# Altium footprint library 29_to_100_Pin.PcbLib: 32 footprints (part 1 of 2)
Each footprint in its own frame and in the unit in brackets; x right, y up, seen from the top. Pads: shape width x height; smd on the part's side, far side on the other; paste and mask are expansions set on the pad; w line width, h text height; cw(c..) or ccw(c..) is an arc to the next point about the centre after c.
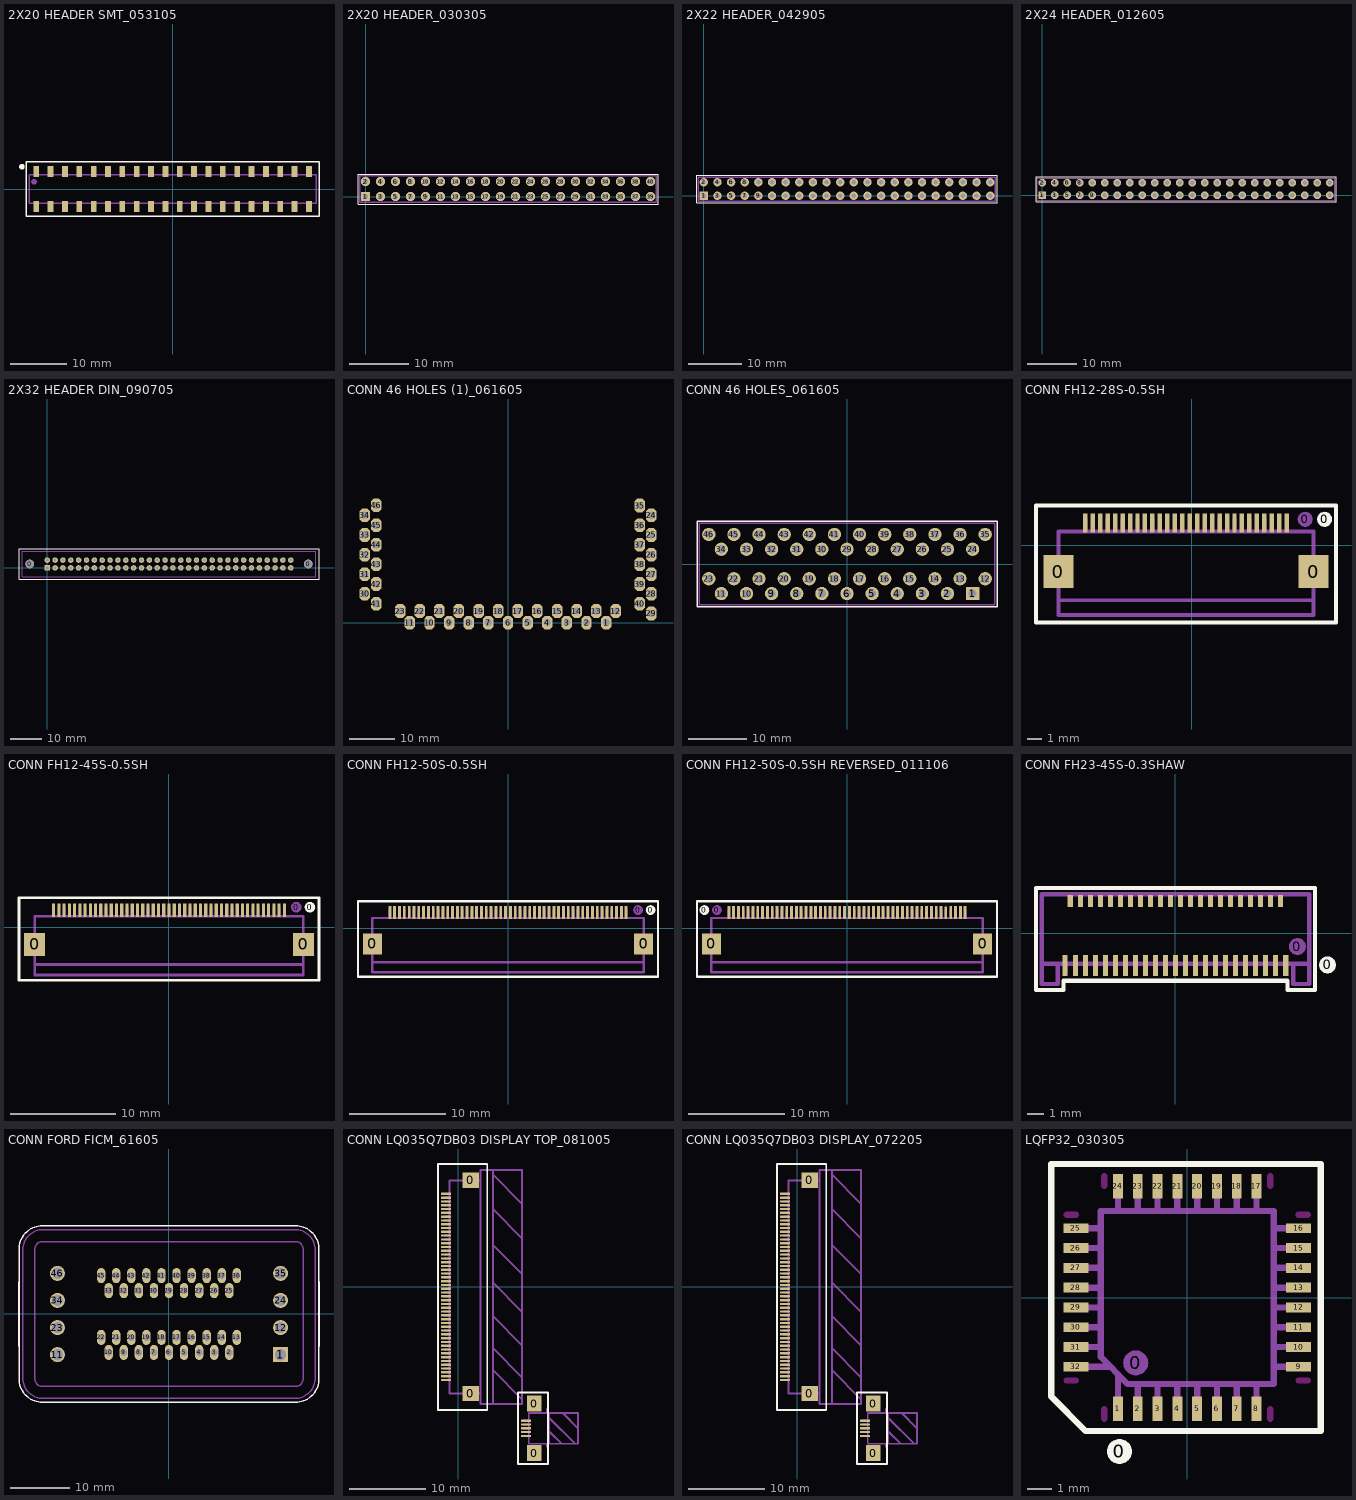
[diagram p0: the footprints below, top view; thin cyan lines are the x and y axes]

## 2X20 HEADER SMT_053105 [mil] "SMT"
height 350
pads (42):
  round 40 on Top Overlay: 0(-1050,155)
  round 40 on Mech1: 0(-965,50)
  rect 40x78 smd: 1(-950,-122.5) 2(-950,122.5) 3(-850,-122.5) 4(-850,122.5) 5(-750,-122.5) 6(-750,122.5) 7(-650,-122.5) 8(-650,122.5) 9(-550,-122.5) 10(-550,122.5) 11(-450,-122.5) 12(-450,122.5) 13(-350,-122.5) 14(-350,122.5) 15(-250,-122.5) 16(-250,122.5) 17(-150,-122.5) 18(-150,122.5) 19(-50,-122.5) 20(-50,122.5) 21(50,-122.5) 22(50,122.5) 23(150,-122.5) 24(150,122.5) 25(250,-122.5) 26(250,122.5) 27(350,-122.5) 28(350,122.5) 29(450,-122.5) 30(450,122.5) 31(550,-122.5) 32(550,122.5) 33(650,-122.5) 34(650,122.5) 35(750,-122.5) 36(750,122.5) 37(850,-122.5) 38(850,122.5) 39(950,-122.5) 40(950,122.5)
Top Overlay:
  lines w10: -1020,-190 -1020,0 -1020,190 0,190 1020,190 1020,0 1020,-190 0,-190 -1020,-190
Assembly:
  drawing of 205 lines, arcs and shapes, not listed
Assembly Designator:
  text ".Designator" at -45,20 h40
Assembly Comment:
  text ".Comment" at -175,-40 h40

## 2X20 HEADER_030305 [mil] "TH"
height 350
pads (40):
  rect 62x62 hole 35: 1(0,0)
  round 62 hole 35: 2(0,100) 3(100,0) 4(100,100) 5(200,0) 6(200,100) 7(300,0) 8(300,100) 9(400,0) 10(400,100) 11(500,0) 12(500,100) 13(600,0) 14(600,100) 15(700,0) 16(700,100) 17(800,0) 18(800,100) 19(900,0) 20(900,100) 21(1000,0) 22(1000,100) 23(1100,0) 24(1100,100) 25(1200,0) 26(1200,100) 27(1300,0) 28(1300,100) 29(1400,0) 30(1400,100) 31(1500,0) 32(1500,100) 33(1600,0) 34(1600,100) 35(1700,0) 36(1700,100) 37(1800,0) 38(1800,100) 39(1900,0) 40(1900,100)
Top Overlay:
  lines w8: -50,-50 1950,-50 1950,150 -50,150 -50,-50
Assembly:
  drawing of 164 lines, arcs and shapes, not listed
Assembly Designator:
  text ".Designator" at 15,39 h40
Assembly Comment:
  text ".Comment" at 1,-110 h40

## 2X22 HEADER_042905 [mil] "TH"
height 350
pads (44):
  rect 62x62 hole 35: 1(0,0)
  round 62 hole 35: 2(0,100) 3(100,0) 4(100,100) 5(200,0) 6(200,100) 7(300,0) 8(300,100) 9(400,0) 10(400,100) 11(500,0) 12(500,100) 13(600,0) 14(600,100) 15(700,0) 16(700,100) 17(800,0) 18(800,100) 19(900,0) 20(900,100) 21(1000,0) 22(1000,100) 23(1100,0) 24(1100,100) 25(1200,0) 26(1200,100) 27(1300,0) 28(1300,100) 29(1400,0) 30(1400,100) 31(1500,0) 32(1500,100) 33(1600,0) 34(1600,100) 35(1700,0) 36(1700,100) 37(1800,0) 38(1800,100) 39(1900,0) 40(1900,100) 41(2000,0) 42(2000,100) 43(2100,0) 44(2100,100)
Top Overlay:
  lines w8: -50,-50 2150,-50 2150,150 -50,150 -50,-50
Assembly:
  drawing of 180 lines, arcs and shapes, not listed
Assembly Designator:
  text ".Designator" at 909,35 h40
Assembly Comment:
  text ".Comment" at 779,-107 h40

## 2X24 HEADER_012605 [mil] "TH"
height 350
pads (48):
  rect 62x62 hole 35: 1(0,0)
  round 62 hole 35: 2(0,100) 3(100,0) 4(100,100) 5(200,0) 6(200,100) 7(300,0) 8(300,100) 9(400,0) 10(400,100) 11(500,0) 12(500,100) 13(600,0) 14(600,100) 15(700,0) 16(700,100) 17(800,0) 18(800,100) 19(900,0) 20(900,100) 21(1000,0) 22(1000,100) 23(1100,0) 24(1100,100) 25(1200,0) 26(1200,100) 27(1300,0) 28(1300,100) 29(1400,0) 30(1400,100) 31(1500,0) 32(1500,100) 33(1600,0) 34(1600,100) 35(1700,0) 36(1700,100) 37(1800,0) 38(1800,100) 39(1900,0) 40(1900,100) 41(2000,0) 42(2000,100) 43(2100,0) 44(2100,100) 45(2200,0) 46(2200,100) 47(2300,0) 48(2300,100)
Top Overlay:
  lines w10: -50,-50 2350,-50 2350,150 -50,150 -50,-50
Assembly:
  drawing of 220 lines, arcs and shapes, not listed
Assembly Designator:
  text ".Designator" at -20,-105 h40
Assembly Comment:
  text ".Comment" at -15,165 h40

## 2X32 HEADER DIN_090705 [mil] "TH"
height 350
pads (66):
  round 110.24 hole 110.24 unplated: 0(-221.65,50) 0(3321.65,50)
  rect 70x70 hole 40: 1(0,0)
  round 70 hole 40: 2(100,0) 3(200,0) 4(300,0) 5(400,0) 6(500,0) 7(600,0) 8(700,0) 9(800,0) 10(900,0) 11(1000,0) 12(1100,0) 13(1200,0) 14(1300,0) 15(1400,0) 16(1500,0) 17(1600,0) 18(1700,0) 19(1800,0) 20(1900,0) 21(2000,0) 22(2100,0) 23(2200,0) 24(2300,0) 25(2400,0) 26(2500,0) 27(2600,0) 28(2700,0) 29(2800,0) 30(2900,0) 31(3000,0) 32(3100,0) 33(0,100) 34(100,100) 35(200,100) 36(300,100) 37(400,100) 38(500,100) 39(600,100) 40(700,100) 41(800,100) 42(900,100) 43(1000,100) 44(1100,100) 45(1200,100) 46(1300,100) 47(1400,100) 48(1500,100) 49(1600,100) 50(1700,100) 51(1800,100) 52(1900,100) 53(2000,100) 54(2100,100) 55(2200,100) 56(2300,100) 57(2400,100) 58(2500,100) 59(2600,100) 60(2700,100) 61(2800,100) 62(2900,100) 63(3000,100) 64(3100,100)
Top Overlay:
  lines w10: -359.45,-146.85 3459.45,-146.85 3459.45,246.85 1550,246.85 -359.45,246.85 -359.45,-146.85
Assembly:
  lines w10: -320.08,-109.45 -237.4,-109.45 1550,-109.45 3337.4,-109.45 3420.08,-109.45 3420.08,50 3420.08,209.45 3337.4,209.45 1550,209.45 -237.4,209.45 -320.08,209.45 -320.08,50 -320.08,-109.45
Assembly Designator:
  text ".Designator" at 1355,-200 h40
Assembly Comment:
  text ".Comment" at 1455,45 h40

## CONN 46 HOLES (1)_061605 [mm] "TH"
pads (46):
  oct 2.3x3 hole 1.6: 1(21.59,0) 2(17.272,0) 3(12.954,0) 4(8.636,0) 5(4.318,0) 6(0,0) 7(-4.318,0) 8(-8.636,0) 9(-12.954,0) 10(-17.272,0) 11(-21.59,0) 12(23.749,2.54) 13(19.431,2.54) 14(15.113,2.54) 15(10.795,2.54) 16(6.477,2.54) 17(2.159,2.54) 18(-2.159,2.54) 19(-6.477,2.54) 20(-10.795,2.54) 21(-15.113,2.54) 22(-19.431,2.54) 23(-23.749,2.54) 24(31.496,23.597) 25(31.496,19.279) 26(31.496,14.961) 27(31.496,10.643) 28(31.496,6.325) 29(31.496,2.007) 30(-31.496,6.325) 31(-31.496,10.643) 32(-31.496,14.961) 33(-31.496,19.279) 34(-31.496,23.597) 35(28.956,25.756) 36(28.956,21.438) 37(28.956,17.12) 38(28.956,12.802) 39(28.956,8.484) 40(28.956,4.166) 41(-28.956,4.166) 42(-28.956,8.484) 43(-28.956,12.802) 44(-28.956,17.12) 45(-28.956,21.438) 46(-28.956,25.781)
Assembly Designator:
  text ".Designator" at -1.27,4.318 h1.02
Assembly Comment:
  text ".Comment" at -3.429,5.842 h1.02

## CONN 46 HOLES_061605 [mil] "TH"
pads (46):
  rect 90x90 hole 55: 1(850,-200)
  round 90 hole 55: 2(680,-200) 3(510,-200) 4(340,-200) 5(170,-200) 6(0,-200) 7(-170,-200) 8(-340,-200) 9(-510,-200) 10(-680,-200) 11(-850,-200) 12(935,-100) 13(765,-100) 14(595,-100) 15(425,-100) 16(255,-100) 17(85,-100) 18(-85,-100) 19(-255,-100) 20(-425,-100) 21(-595,-100) 22(-765,-100) 23(-935,-100) 24(850,100) 25(680,100) 26(510,100) 27(340,100) 28(170,100) 29(0,100) 30(-170,100) 31(-340,100) 32(-510,100) 33(-680,100) 34(-850,100) 35(935,200) 36(765,200) 37(595,200) 38(425,200) 39(255,200) 40(85,200) 41(-85,200) 42(-255,200) 43(-425,200) 44(-595,200) 45(-765,200) 46(-935,200)
Top Overlay:
  lines w10: -1015,-290 1015,-290 1015,170 1015,290 -1015,290 -1015,170 -1015,-290
Assembly:
  lines w10: -1000,-275 1000,-275 1000,200 1000,275 -1000,275 -1000,200 -1000,-275
Assembly Designator:
  text ".Designator" at -50,-25 h40
Assembly Comment:
  text ".Comment" at -190,-365 h40

## CONN FH12-28S-0.5SH [mm] "SM FP"
height 2
pads (32):
  rect 2x2.2 smd mask+0.025: 0(-8.919,-1.75) 0(8.181,-1.75)
  round 1.016 on Mech1 mask+0.025: 0(7.619,1.75)
  round 1.016 on Top Overlay mask+0.025: 0(8.919,1.75)
  rect 0.3x1.3 smd mask+0.025: 1(6.381,1.5) 2(5.881,1.5) 3(5.381,1.5) 4(4.881,1.5) 5(4.381,1.5) 6(3.881,1.5) 7(3.381,1.5) 8(2.881,1.5) 9(2.381,1.5) 10(1.881,1.5) 11(1.381,1.5) 12(0.881,1.5) 13(0.381,1.5) 14(-0.119,1.5) 15(-0.619,1.5) 16(-1.119,1.5) 17(-1.619,1.5) 18(-2.119,1.5) 19(-2.619,1.5) 20(-3.119,1.5) 21(-3.619,1.5) 22(-4.119,1.5) 23(-4.619,1.5) 24(-5.119,1.5) 25(-5.619,1.5) 26(-6.119,1.5) 27(-6.619,1.5) 28(-7.119,1.5)
Top Overlay:
  lines w0.254: -10.419,-5.17 -10.319,-5.17 -5.869,-5.17 9.581,-5.17 9.681,-5.17 9.681,2.68 9.581,2.68 -5.869,2.68 -10.319,2.68 -10.419,2.68 -10.419,-5.17
Assembly:
  lines w0.254: -8.919,-2.27 -9.419,-2.27 -9.419,-1.07 -8.919,-1.07 -8.919,0.93 ; -7.107,0.94 -7.107,1.74 ; -6.619,0.93 -6.619,1.73 ; -6.119,0.93 -6.119,1.73 ; -5.619,0.93 -5.619,1.73 ; -5.119,0.93 -5.119,1.73 ; -4.619,0.93 -4.619,1.73 ; -4.119,0.93 -4.119,1.73 ; -3.619,0.93 -3.619,1.73 ; -3.119,0.93 -3.119,1.73 ; -2.619,0.93 -2.619,1.73 ; -2.119,0.93 -2.119,1.73 ; -1.619,0.93 -1.619,1.73 ; -1.119,0.93 -1.119,1.73 ; -0.619,0.93 -0.619,1.73 ; -0.119,0.93 -0.119,1.73 ; 0.381,0.93 0.381,1.73 ; 0.881,0.93 0.881,1.73 ; 1.381,0.93 1.381,1.73 ; 1.881,0.93 1.881,1.73 ; 2.381,0.93 2.381,1.73 ; 2.881,0.93 2.881,1.73 ; 3.381,0.93 3.381,1.73 ; 3.881,0.93 3.881,1.73 ; 4.381,0.93 4.381,1.73 ; 4.881,0.93 4.881,1.73 ; 5.381,0.93 5.381,1.73 ; 5.881,0.93 5.881,1.73 ; 6.381,0.93 6.381,1.73 ; 8.181,-2.27 8.681,-2.27 8.681,-1.07 8.181,-1.07 ; -8.919,0.93 8.181,0.93 8.181,-3.67 ; -8.919,0.93 -8.919,-3.67 8.181,-3.67 ; -8.919,0.93 -8.919,-4.67 8.181,-4.67 8.181,-3.67
Assembly Designator:
  text ".Designator" at -2.369,-1.67 h1.02
Assembly Comment:
  text ".Comment" at -7.019,-3.27 h1.02

## CONN FH12-45S-0.5SH [mm] "SM FP"
height 2
pads (49):
  rect 2x2.2 smd mask+0.038: 0(-12.8,-1.625) 0(12.8,-1.625)
  round 1.016 on Mech1 mask+0.038: 0(12.138,1.92)
  round 1.016 on Top Overlay mask+0.038: 0(13.438,1.92)
  rect 0.3x1.3 smd mask+0.038: 1(11,1.625) 2(10.5,1.625) 3(10,1.625) 4(9.5,1.625) 5(9,1.625) 6(8.5,1.625) 7(8,1.625) 8(7.5,1.625) 9(7,1.625) 10(6.5,1.625) 11(6,1.625) 12(5.5,1.625) 13(5,1.625) 14(4.5,1.625) 15(4,1.625) 16(3.5,1.625) 17(3,1.625) 18(2.5,1.625) 19(2,1.625) 20(1.5,1.625) 21(1,1.625) 22(0.5,1.625) 23(0,1.625) 24(-0.5,1.625) 25(-1,1.625) 26(-1.5,1.625) 27(-2,1.625) 28(-2.5,1.625) 29(-3,1.625) 30(-3.5,1.625) 31(-4,1.625) 32(-4.5,1.625) 33(-5,1.625) 34(-5.5,1.625) 35(-6,1.625) 36(-6.5,1.625) 37(-7,1.625) 38(-7.5,1.625) 39(-8,1.625) 40(-8.5,1.625) 41(-9,1.625) 42(-9.5,1.625) 43(-10,1.625) 44(-10.5,1.625) 45(-11,1.625)
Top Overlay:
  lines w0.254: -14.3,-5.045 -14.3,2.805 -14.2,2.805 1.25,2.805 14.2,2.805 14.3,2.805 14.3,-5.045 14.2,-5.045 1.25,-5.045 -14.2,-5.045 -14.3,-5.045
Assembly:
  lines w0.254: -12.8,-2.145 -13.3,-2.145 -13.3,-0.945 -12.8,-0.945 -12.8,1.055 ; -11,1.055 -11,1.855 ; -10.5,1.055 -10.5,1.855 ; -10,1.055 -10,1.855 ; -9.5,1.055 -9.5,1.855 ; -9,1.055 -9,1.855 ; -8.5,1.055 -8.5,1.855 ; -8,1.055 -8,1.855 ; -7.5,1.055 -7.5,1.855 ; -7,1.055 -7,1.855 ; -6.5,1.055 -6.5,1.855 ; -6,1.055 -6,1.855 ; -5.5,1.055 -5.5,1.855 ; -5,1.055 -5,1.855 ; -4.5,1.055 -4.5,1.855 ; -4,1.055 -4,1.855 ; -3.5,1.055 -3.5,1.855 ; -3,1.055 -3,1.855 ; -2.5,1.055 -2.5,1.855 ; -2,1.055 -2,1.855 ; -1.5,1.055 -1.5,1.855 ; -1,1.055 -1,1.855 ; -0.5,1.055 -0.5,1.855 ; 0,1.055 0,1.855 ; 0.5,1.055 0.5,1.855 ; 1,1.055 1,1.855 ; 1.25,1.055 -12.8,1.055 ; 1.5,1.055 1.5,1.855 ; 2,1.055 2,1.855 ; 2.5,1.055 2.5,1.855 ; 3,1.055 3,1.855 ; 3.5,1.055 3.5,1.855 ; 4,1.055 4,1.855 ; 4.5,1.055 4.5,1.855 ; 5,1.055 5,1.855 ; 5.5,1.055 5.5,1.855 ; 6,1.055 6,1.855 ; 6.5,1.055 6.5,1.855 ; 7,1.055 7,1.855 ; 7.5,1.055 7.5,1.855 ; 8,1.055 8,1.855 ; 8.5,1.055 8.5,1.855 ; 9,1.055 9,1.855 ; 9.5,1.055 9.5,1.855 ; 10,1.055 10,1.855 ; 10.5,1.055 10.5,1.855 ; 11,1.055 11,1.855 ; 12.8,-3.945 12.8,-3.545 ; 12.8,-2.145 13.3,-2.145 13.3,-0.945 12.8,-0.945 ; -12.8,1.055 -12.8,-4.545 12.8,-4.545 12.8,-3.545 ; -12.8,1.055 -12.8,-3.545 12.1,-3.545 12.8,-3.545 ; -12.8,1.055 12.8,1.055 12.8,-3.545
Assembly Designator:
  text ".Designator" at -0.1,-0.545 h1.02
Assembly Comment:
  text ".Comment" at -3.05,-2.395 h1.02

## CONN FH12-50S-0.5SH [mm] "SM FP"
height 2
pads (54):
  rect 2x2.2 smd mask+0.025: 0(-14.05,-1.63) 0(14.05,-1.63)
  round 1.016 on Mech1 mask+0.025: 0(13.488,1.87)
  round 1.016 on Top Overlay mask+0.025: 0(14.788,1.87)
  rect 0.3x1.3 smd mask+0.025: 1(12.25,1.62) 2(11.75,1.62) 3(11.25,1.62) 4(10.75,1.62) 5(10.25,1.62) 6(9.75,1.62) 7(9.25,1.62) 8(8.75,1.62) 9(8.25,1.62) 10(7.75,1.62) 11(7.25,1.62) 12(6.75,1.62) 13(6.25,1.62) 14(5.75,1.62) 15(5.25,1.62) 16(4.75,1.62) 17(4.25,1.62) 18(3.75,1.62) 19(3.25,1.62) 20(2.75,1.62) 21(2.25,1.62) 22(1.75,1.62) 23(1.25,1.62) 24(0.75,1.62) 25(0.25,1.62) 26(-0.25,1.62) 27(-0.75,1.62) 28(-1.25,1.62) 29(-1.75,1.62) 30(-2.25,1.62) 31(-2.75,1.62) 32(-3.25,1.62) 33(-3.75,1.62) 34(-4.25,1.62) 35(-4.75,1.62) 36(-5.25,1.62) 37(-5.75,1.62) 38(-6.25,1.62) 39(-6.75,1.62) 40(-7.25,1.62) 41(-7.75,1.62) 42(-8.25,1.62) 43(-8.75,1.62) 44(-9.25,1.62) 45(-9.75,1.62) 46(-10.238,1.63) 47(-10.75,1.62) 48(-11.25,1.62) 49(-11.75,1.62) 50(-12.25,1.62)
Top Overlay:
  lines w0.254: -15.55,-5.05 -15.45,-5.05 0,-5.05 15.45,-5.05 15.55,-5.05 15.55,2.8 15.45,2.8 0,2.8 -15.45,2.8 -15.55,2.8 -15.55,-5.05
Assembly:
  lines w0.254: -14.05,-2.15 -14.55,-2.15 -14.55,-0.95 -14.05,-0.95 -14.05,1.05 ; -12.238,1.06 -12.238,1.86 ; -11.738,1.06 -11.738,1.86 ; -11.238,1.06 -11.238,1.86 ; -10.738,1.06 -10.738,1.86 ; -10.238,1.06 -10.238,1.86 ; -9.75,1.05 -9.75,1.85 ; -9.25,1.05 -9.25,1.85 ; -8.75,1.05 -8.75,1.85 ; -8.25,1.05 -8.25,1.85 ; -7.75,1.05 -7.75,1.85 ; -7.25,1.05 -7.25,1.85 ; -6.75,1.05 -6.75,1.85 ; -6.25,1.05 -6.25,1.85 ; -5.75,1.05 -5.75,1.85 ; -5.25,1.05 -5.25,1.85 ; -4.75,1.05 -4.75,1.85 ; -4.25,1.05 -4.25,1.85 ; -3.75,1.05 -3.75,1.85 ; -3.25,1.05 -3.25,1.85 ; -2.75,1.05 -2.75,1.85 ; -2.25,1.05 -2.25,1.85 ; -1.75,1.05 -1.75,1.85 ; -1.25,1.05 -1.25,1.85 ; -0.75,1.05 -0.75,1.85 ; -0.25,1.05 -0.25,1.85 ; 0,1.05 -14.05,1.05 ; 0.25,1.05 0.25,1.85 ; 0.75,1.05 0.75,1.85 ; 1.25,1.05 1.25,1.85 ; 1.75,1.05 1.75,1.85 ; 2.25,1.05 2.25,1.85 ; 2.75,1.05 2.75,1.85 ; 3.25,1.05 3.25,1.85 ; 3.75,1.05 3.75,1.85 ; 4.25,1.05 4.25,1.85 ; 4.75,1.05 4.75,1.85 ; 5.25,1.05 5.25,1.85 ; 5.75,1.05 5.75,1.85 ; 6.25,1.05 6.25,1.85 ; 6.75,1.05 6.75,1.85 ; 7.25,1.05 7.25,1.85 ; 7.75,1.05 7.75,1.85 ; 8.25,1.05 8.25,1.85 ; 8.75,1.05 8.75,1.85 ; 9.25,1.05 9.25,1.85 ; 9.75,1.05 9.75,1.85 ; 10.25,1.05 10.25,1.85 ; 10.75,1.05 10.75,1.85 ; 11.25,1.05 11.25,1.85 ; 11.75,1.05 11.75,1.85 ; 12.25,1.05 12.25,1.85 ; 14.05,-2.15 14.55,-2.15 14.55,-0.95 14.05,-0.95 ; -14.05,1.05 14.05,1.05 14.05,-3.55 ; -14.05,1.05 -14.05,-3.55 14.05,-3.55 ; -14.05,1.05 -14.05,-4.55 14.05,-4.55 14.05,-3.55
Assembly Designator:
  text ".Designator" at -1.35,-0.55 h1.02
Assembly Comment:
  text ".Comment" at -4.3,-2.4 h1.02

## CONN FH12-50S-0.5SH REVERSED_011106 [mm] "SM FP"
height 2
pads (54):
  round 1.016 on Top Overlay mask+0.025: 0(-14.788,1.87)
  rect 2x2.2 smd mask+0.025: 0(-14.05,-1.63) 0(14.05,-1.63)
  round 1.016 on Mech1 mask+0.025: 0(-13.488,1.87)
  rect 0.3x1.3 smd mask+0.025: 1(-12.25,1.62) 2(-11.75,1.62) 3(-11.25,1.62) 4(-10.75,1.62) 5(-10.25,1.62) 6(-9.75,1.62) 7(-9.25,1.62) 8(-8.75,1.62) 9(-8.25,1.62) 10(-7.75,1.62) 11(-7.25,1.62) 12(-6.75,1.62) 13(-6.25,1.62) 14(-5.75,1.62) 15(-5.25,1.62) 16(-4.75,1.62) 17(-4.25,1.62) 18(-3.75,1.62) 19(-3.25,1.62) 20(-2.75,1.62) 21(-2.25,1.62) 22(-1.75,1.62) 23(-1.25,1.62) 24(-0.75,1.62) 25(-0.25,1.62) 26(0.25,1.62) 27(0.75,1.62) 28(1.25,1.62) 29(1.75,1.62) 30(2.25,1.62) 31(2.75,1.62) 32(3.25,1.62) 33(3.75,1.62) 34(4.25,1.62) 35(4.75,1.62) 36(5.25,1.62) 37(5.75,1.62) 38(6.25,1.62) 39(6.75,1.62) 40(7.25,1.62) 41(7.75,1.62) 42(8.25,1.62) 43(8.75,1.62) 44(9.25,1.62) 45(9.75,1.62) 46(10.238,1.61) 47(10.75,1.62) 48(11.25,1.62) 49(11.75,1.62) 50(12.25,1.62)
Top Overlay:
  lines w0.254: -15.55,-5.05 -15.55,2.8 -15.45,2.8 0,2.8 15.45,2.8 15.55,2.8 15.55,-5.05 15.45,-5.05 0,-5.05 -15.45,-5.05 -15.55,-5.05
Assembly:
  lines w0.254: -14.05,-2.15 -14.55,-2.15 -14.55,-0.95 -14.05,-0.95 -14.05,1.05 ; -12.238,1.06 -12.238,1.86 ; -11.738,1.06 -11.738,1.86 ; -11.238,1.06 -11.238,1.86 ; -10.738,1.06 -10.738,1.86 ; -10.238,1.06 -10.238,1.86 ; -9.75,1.05 -9.75,1.85 ; -9.25,1.05 -9.25,1.85 ; -8.75,1.05 -8.75,1.85 ; -8.25,1.05 -8.25,1.85 ; -7.75,1.05 -7.75,1.85 ; -7.25,1.05 -7.25,1.85 ; -6.75,1.05 -6.75,1.85 ; -6.25,1.05 -6.25,1.85 ; -5.75,1.05 -5.75,1.85 ; -5.25,1.05 -5.25,1.85 ; -4.75,1.05 -4.75,1.85 ; -4.25,1.05 -4.25,1.85 ; -3.75,1.05 -3.75,1.85 ; -3.25,1.05 -3.25,1.85 ; -2.75,1.05 -2.75,1.85 ; -2.25,1.05 -2.25,1.85 ; -1.75,1.05 -1.75,1.85 ; -1.25,1.05 -1.25,1.85 ; -0.75,1.05 -0.75,1.85 ; -0.25,1.05 -0.25,1.85 ; 0,1.05 -14.05,1.05 ; 0.25,1.05 0.25,1.85 ; 0.75,1.05 0.75,1.85 ; 1.25,1.05 1.25,1.85 ; 1.75,1.05 1.75,1.85 ; 2.25,1.05 2.25,1.85 ; 2.75,1.05 2.75,1.85 ; 3.25,1.05 3.25,1.85 ; 3.75,1.05 3.75,1.85 ; 4.25,1.05 4.25,1.85 ; 4.75,1.05 4.75,1.85 ; 5.25,1.05 5.25,1.85 ; 5.75,1.05 5.75,1.85 ; 6.25,1.05 6.25,1.85 ; 6.75,1.05 6.75,1.85 ; 7.25,1.05 7.25,1.85 ; 7.75,1.05 7.75,1.85 ; 8.25,1.05 8.25,1.85 ; 8.75,1.05 8.75,1.85 ; 9.25,1.05 9.25,1.85 ; 9.75,1.05 9.75,1.85 ; 10.25,1.05 10.25,1.85 ; 10.75,1.05 10.75,1.85 ; 11.25,1.05 11.25,1.85 ; 11.75,1.05 11.75,1.85 ; 12.25,1.05 12.25,1.85 ; 14.05,-2.15 14.55,-2.15 14.55,-0.95 14.05,-0.95 ; -14.05,1.05 -14.05,-4.55 14.05,-4.55 14.05,-3.55 ; -14.05,1.05 -14.05,-3.55 14.05,-3.55 ; -14.05,1.05 14.05,1.05 14.05,-3.55
Assembly Designator:
  text ".Designator" at -1.35,-0.55 h1.02
Assembly Comment:
  text ".Comment" at -4.3,-2.4 h1.02

## CONN FH23-45S-0.3SHAW [mm] "SM FP"
height 1.25
pads (47):
  round 1.016 on Mech1 mask+0.038: 0(7.3,-0.8)
  round 1.016 on Top Overlay mask+0.038: 0(9.1,-1.9)
  rect 0.3x1.25 smd mask+0.038: 1(6.6,-1.925) 3(6,-1.925) 5(5.4,-1.925) 7(4.8,-1.925) 9(4.2,-1.925) 11(3.6,-1.925) 13(3,-1.925) 15(2.4,-1.925) 17(1.8,-1.925) 19(1.2,-1.925) 21(0.6,-1.925) 23(0,-1.925) 25(-0.6,-1.925) 27(-1.2,-1.925) 29(-1.8,-1.925) 31(-2.4,-1.925) 33(-3,-1.925) 35(-3.6,-1.925) 37(-4.2,-1.925) 39(-4.8,-1.925) 41(-5.4,-1.925) 43(-6,-1.925) 45(-6.6,-1.925)
  rect 0.3x0.7 smd mask+0.038: 2(6.3,1.925) 4(5.7,1.925) 6(5.1,1.925) 8(4.5,1.925) 10(3.9,1.925) 12(3.3,1.925) 14(2.7,1.925) 16(2.1,1.925) 18(1.5,1.925) 20(0.9,1.925) 22(0.3,1.925) 24(-0.3,1.925) 26(-0.9,1.925) 28(-1.5,1.925) 30(-2.1,1.925) 32(-2.7,1.925) 34(-3.3,1.925) 36(-3.9,1.925) 38(-4.5,1.925) 40(-5.1,1.925) 42(-5.7,1.925) 44(-6.3,1.925)
Top Overlay:
  lines w0.254: -8.35,-3.4 -8.35,2.7 0,2.7 8.35,2.7 8.35,-3.4 6.7,-3.4 6.7,-2.85 0,-2.85 -6.7,-2.85 -6.7,-3.4 -8.35,-3.4
Assembly:
  lines w0.254: -7.05,-1.825 -7.05,-3.05 -8,-3.05 -8,2.325 ; -6.6,-2.375 -6.6,-1.825 ; -6,-2.375 -6,-1.825 ; -5.4,-2.375 -5.4,-1.825 ; -4.8,-2.375 -4.8,-1.825 ; -4.2,-2.375 -4.2,-1.825 ; -3.6,-2.375 -3.6,-1.825 ; -3,-2.375 -3,-1.825 ; -2.4,-2.375 -2.4,-1.825 ; -1.8,-2.375 -1.8,-1.825 ; -1.2,-2.375 -1.2,-1.825 ; -0.6,-2.375 -0.6,-1.825 ; 0,-2.375 0,-1.825 ; 0,2.325 -8,2.325 ; 0.6,-2.375 0.6,-1.825 ; 1.2,-2.375 1.2,-1.825 ; 1.8,-2.375 1.8,-1.825 ; 2.4,-2.375 2.4,-1.825 ; 3,-2.375 3,-1.825 ; 3.6,-2.375 3.6,-1.825 ; 4.2,-2.375 4.2,-1.825 ; 4.8,-2.375 4.8,-1.825 ; 5.4,-2.375 5.4,-1.825 ; 6,-2.375 6,-1.825 ; 6.6,-2.375 6.6,-1.825 ; 7.05,-1.825 7.05,-3.05 8,-3.05 8,-1.825 ; -8,2.325 8,2.325 8,-1.825 ; -8,2.325 -8,-1.825 8,-1.825
Assembly Designator:
  text ".Designator" at -1.65,-0.4 h1.02
Assembly Comment:
  text ".Comment" at -4.65,-4.1 h1.02

## CONN FORD FICM_61605 [mil] "TH"
height 1.23
pads (46):
  rect 100x100 hole 75: 1(740,-270)
  oval 55x100 hole 45: 2(400,-255) 3(300,-255) 4(200,-255) 5(100,-255) 6(0,-255) 7(-100,-255) 8(-200,-255) 9(-300,-255) 10(-400,-255) 13(450,-155) 14(350,-155) 15(250,-155) 16(150,-155) 17(50,-155) 18(-50,-155) 19(-150,-155) 20(-250,-155) 21(-350,-155) 22(-450,-155) 25(400,155) 26(300,155) 27(200,155) 28(100,155) 29(0,155) 30(-100,155) 31(-200,155) 32(-300,155) 33(-400,155) 36(450,255) 37(350,255) 38(250,255) 39(150,255) 40(50,255) 41(-50,255) 42(-150,255) 43(-250,255) 44(-350,255) 45(-450,255)
  round 100 hole 75: 11(-740,-270) 12(740,-90) 23(-740,-90) 24(740,90) 34(-740,90) 35(740,270) 46(-740,270)
Top Overlay:
  lines w10: 990,0 995,0 ; 995,0 994.93,-430.07 cw(c840,-430.07) 840,-585 0,-585 -840,-585 cw(c-840,-430.07) -994.93,-430.07 -995,0 -994.93,430.07 cw(c-840,430.07) -840,585 0,585 840,585 cw(c840,430.07) 994.93,430.07 995,0
Assembly:
  lines w10: -970,-425 ccw(c-835,-425) -835,-560 835,-560 ccw(c835,-425) 970,-425 970,425 ccw(c835,425) 835,560 -835,560 ccw(c-835,425) -970,425 -970,-425 ; -890,-430 ccw(c-840,-430) -840,-480 840,-480 ccw(c840,-430) 890,-430 890,430 ccw(c840,430) 840,480 -840,480 ccw(c-840,430) -890,430 -890,-430
Assembly Designator:
  text ".Designator" at -89.96,-25.75 h40
Assembly Comment:
  text ".Comment" at -215,-385 h40

## CONN LQ035Q7DB03 DISPLAY TOP_081005 [mm] "SM"
height 2.032
pads (59):
  rect 2.2x2 smd mask+0.038: 0(1.625,-14.05) 0(1.625,14.05)
  rect 1.9x2.1 smd mask+0.038: 0(9.967,-21.871) 0(9.967,-15.369)
  rect 1.3x0.3 smd mask+0.038: 1(-1.625,-12.25) 2(-1.625,-11.75) 3(-1.625,-11.25) 4(-1.625,-10.75) 5(-1.625,-10.25) 6(-1.625,-9.75) 7(-1.625,-9.25) 8(-1.625,-8.75) 9(-1.625,-8.25) 10(-1.625,-7.75) 11(-1.625,-7.25) 12(-1.625,-6.75) 13(-1.625,-6.25) 14(-1.625,-5.75) 15(-1.625,-5.25) 16(-1.625,-4.75) 17(-1.625,-4.25) 18(-1.625,-3.75) 19(-1.625,-3.25) 20(-1.625,-2.75) 21(-1.625,-2.25) 22(-1.625,-1.75) 23(-1.625,-1.25) 24(-1.625,-0.75) 25(-1.625,-0.25) 26(-1.625,0.25) 27(-1.625,0.75) 28(-1.625,1.25) 29(-1.625,1.75) 30(-1.625,2.25) 31(-1.625,2.75) 32(-1.625,3.25) 33(-1.625,3.75) 34(-1.625,4.25) 35(-1.625,4.75) 36(-1.625,5.25) 37(-1.625,5.75) 38(-1.625,6.25) 39(-1.625,6.75) 40(-1.625,7.25) 41(-1.625,7.75) 42(-1.625,8.25) 43(-1.625,8.75) 44(-1.625,9.25) 45(-1.625,9.75) 46(-1.625,10.25) 47(-1.625,10.75) 48(-1.625,11.25) 49(-1.625,11.75) 50(-1.625,12.25) A1(8.875,-19.62) A2(8.875,-19.12) A3(8.875,-18.62) A4(8.875,-18.12) A5(8.875,-17.62)
Top Overlay:
  lines w0.254: -2.682,-16.207 3.795,-16.207 3.795,16.178 -2.682,16.178 -2.682,-16.207 ; 7.859,-23.319 11.796,-23.319 11.796,-13.921 7.859,-13.921 7.859,-23.319
Assembly:
  region: -1.158,-6.37 -1.158,-6.12 -1.875,-6.12 -1.875,-6.37
  region: -1.158,-5.87 -1.158,-5.62 -1.875,-5.62 -1.875,-5.87
  region: -1.158,-5.37 -1.158,-5.12 -1.875,-5.12 -1.875,-5.37
  region: -1.158,-4.87 -1.158,-4.62 -1.875,-4.62 -1.875,-4.87
  region: -1.158,-4.37 -1.158,-4.12 -1.875,-4.12 -1.875,-4.37
  region: -1.158,-3.87 -1.158,-3.62 -1.875,-3.62 -1.875,-3.87
  region: -1.158,-3.37 -1.158,-3.12 -1.875,-3.12 -1.875,-3.37
  region: -1.158,-2.87 -1.158,-2.62 -1.875,-2.62 -1.875,-2.87
  region: -1.158,-2.37 -1.158,-2.12 -1.875,-2.12 -1.875,-2.37
  region: -1.158,-1.87 -1.158,-1.62 -1.875,-1.62 -1.875,-1.87
  region: -1.158,-1.37 -1.158,-1.12 -1.875,-1.12 -1.875,-1.37
  region: -1.158,-0.87 -1.158,-0.62 -1.875,-0.62 -1.875,-0.87
  region: -1.158,-0.37 -1.158,-0.12 -1.875,-0.12 -1.875,-0.37
  region: -1.158,0.13 -1.158,0.38 -1.875,0.38 -1.875,0.13
  region: -1.158,0.63 -1.158,0.88 -1.875,0.88 -1.875,0.63
  region: -1.158,1.13 -1.158,1.38 -1.875,1.38 -1.875,1.13
  region: -1.158,1.63 -1.158,1.88 -1.875,1.88 -1.875,1.63
  region: -1.158,2.13 -1.158,2.38 -1.875,2.38 -1.875,2.13
  region: -1.158,2.63 -1.158,2.88 -1.875,2.88 -1.875,2.63
  region: -1.158,3.13 -1.158,3.38 -1.875,3.38 -1.875,3.13
  region: -1.158,3.63 -1.158,3.88 -1.875,3.88 -1.875,3.63
  region: -1.158,4.13 -1.158,4.38 -1.875,4.38 -1.875,4.13
  region: -1.158,4.63 -1.158,4.88 -1.875,4.88 -1.875,4.63
  region: -1.158,5.13 -1.158,5.38 -1.875,5.38 -1.875,5.13
  region: -1.158,5.63 -1.158,5.88 -1.875,5.88 -1.875,5.63
  region: -1.158,6.13 -1.158,6.38 -1.875,6.38 -1.875,6.13
  region: -1.158,6.63 -1.158,6.88 -1.875,6.88 -1.875,6.63
  region: -1.158,7.13 -1.158,7.38 -1.875,7.38 -1.875,7.13
  region: -1.158,7.63 -1.158,7.88 -1.875,7.88 -1.875,7.63
  region: -1.158,8.13 -1.158,8.38 -1.875,8.38 -1.875,8.13
  region: -1.158,8.63 -1.158,8.88 -1.875,8.88 -1.875,8.63
  region: -1.158,9.13 -1.158,9.38 -1.875,9.38 -1.875,9.13
  region: -1.158,9.63 -1.158,9.88 -1.875,9.88 -1.875,9.63
  region: -1.158,10.13 -1.158,10.38 -1.875,10.38 -1.875,10.13
  region: -1.158,10.63 -1.158,10.88 -1.875,10.88 -1.875,10.63
  region: -1.158,11.13 -1.158,11.38 -1.875,11.38 -1.875,11.13
  region: -1.158,11.63 -1.158,11.88 -1.875,11.88 -1.875,11.63
  region: -1.158,12.13 -1.158,12.38 -1.875,12.38 -1.875,12.13
  region: -1.158,-6.87 -1.158,-6.62 -1.875,-6.62 -1.875,-6.87
  region: -1.158,-7.37 -1.158,-7.12 -1.875,-7.12 -1.875,-7.37
  region: -1.158,-7.87 -1.158,-7.62 -1.875,-7.62 -1.875,-7.87
  region: -1.158,-8.37 -1.158,-8.12 -1.875,-8.12 -1.875,-8.37
  region: -1.158,-8.87 -1.158,-8.62 -1.875,-8.62 -1.875,-8.87
  region: -1.158,-9.37 -1.158,-9.12 -1.875,-9.12 -1.875,-9.37
  region: -1.158,-9.87 -1.158,-9.62 -1.875,-9.62 -1.875,-9.87
  region: -1.158,-10.37 -1.158,-10.12 -1.875,-10.12 -1.875,-10.37
  region: -1.158,-10.87 -1.158,-10.62 -1.875,-10.62 -1.875,-10.87
  region: -1.158,-11.37 -1.158,-11.12 -1.875,-11.12 -1.875,-11.37
  region: -1.158,-11.87 -1.158,-11.62 -1.875,-11.62 -1.875,-11.87
  region: -1.158,-12.37 -1.158,-12.12 -1.875,-12.12 -1.875,-12.37
  region: 9.256,-17.731 9.256,-17.477 8.494,-17.477 8.494,-17.731
  region: 9.256,-18.239 9.256,-17.985 8.494,-17.985 8.494,-18.239
  region: 9.256,-18.747 9.256,-18.493 8.494,-18.493 8.494,-18.747
  region: 9.256,-19.255 9.256,-19.001 8.494,-19.001 8.494,-19.255
  region: 9.256,-19.763 9.256,-19.509 8.494,-19.509 8.494,-19.763
  lines w0.254: 2.906,-14.048 -1.158,-14.048 -1.158,14.019 2.906,14.019 ; 4.557,-11 8.367,-14.81 ; 4.557,-8.079 8.367,-11.889 ; 4.557,-3.888 8.367,-7.698 ; 4.557,0.557 8.367,-3.253 ; 4.557,5.51 8.367,1.7 ; 4.557,10.209 8.367,6.399 ; 4.557,14.781 8.367,10.971 ; 11.669,-21.033 11.669,-20.652 ; 11.669,-16.588 11.669,-16.08 ; 11.923,-19.001 13.574,-20.652 ; 11.923,-17.223 15.352,-20.652 ; 13.701,-16.588 15.733,-18.62 ; 4.557,-15.445 2.906,-15.445 2.906,15.416 4.557,15.416 ; 4.557,-15.445 4.557,-14.048 4.557,14.019 4.557,15.416 ; 4.557,-15.445 8.367,-15.445 8.367,15.416 4.557,15.416 ; 11.923,-20.652 9.256,-20.652 9.256,-16.588 11.923,-16.588 ; 11.923,-20.652 11.923,-16.588 ; 11.923,-20.652 15.733,-20.652 15.733,-16.588 11.923,-16.588
  text "NO COMPONENT AREAS" at 6.589,-8.079 h1.02
Assembly Designator:
  text ".Designator" at 0.508,0.889 h1.02
Assembly Comment:
  text ".Comment" at -0.381,4.191 h1.02

## CONN LQ035Q7DB03 DISPLAY_072205 [mm] "SM"
height 2.032
pads (59):
  rect 2.2x2 smd mask+0.038: 0(1.625,-14.05) 0(1.625,14.05)
  rect 1.9x2.1 smd mask+0.038: 0(9.967,-21.871) 0(9.967,-15.369)
  rect 1.3x0.3 smd mask+0.038: 1(-1.625,-12.25) 2(-1.625,-11.75) 3(-1.625,-11.25) 4(-1.625,-10.75) 5(-1.625,-10.25) 6(-1.625,-9.75) 7(-1.625,-9.25) 8(-1.625,-8.75) 9(-1.625,-8.25) 10(-1.625,-7.75) 11(-1.625,-7.25) 12(-1.625,-6.75) 13(-1.625,-6.25) 14(-1.625,-5.75) 15(-1.625,-5.25) 16(-1.625,-4.75) 17(-1.625,-4.25) 18(-1.625,-3.75) 19(-1.625,-3.25) 20(-1.625,-2.75) 21(-1.625,-2.25) 22(-1.625,-1.75) 23(-1.625,-1.25) 24(-1.625,-0.75) 25(-1.625,-0.25) 26(-1.625,0.25) 27(-1.625,0.75) 28(-1.625,1.25) 29(-1.625,1.75) 30(-1.625,2.25) 31(-1.625,2.75) 32(-1.625,3.25) 33(-1.625,3.75) 34(-1.625,4.25) 35(-1.625,4.75) 36(-1.625,5.25) 37(-1.625,5.75) 38(-1.625,6.25) 39(-1.625,6.75) 40(-1.625,7.25) 41(-1.625,7.75) 42(-1.625,8.25) 43(-1.625,8.75) 44(-1.625,9.25) 45(-1.625,9.75) 46(-1.625,10.25) 47(-1.625,10.75) 48(-1.625,11.25) 49(-1.625,11.75) 50(-1.625,12.25) A1(8.875,-19.62) A2(8.875,-19.12) A3(8.875,-18.62) A4(8.875,-18.12) A5(8.875,-17.62)
Top Overlay:
  lines w0.254: -2.682,-16.207 -2.682,16.178 3.795,16.178 3.795,-16.207 -2.682,-16.207 ; 7.859,-23.319 7.859,-13.921 11.796,-13.921 11.796,-23.319 7.859,-23.319
Assembly:
  region: 9.256,-19.763 9.256,-19.509 8.494,-19.509 8.494,-19.763
  region: 9.256,-19.255 9.256,-19.001 8.494,-19.001 8.494,-19.255
  region: 9.256,-18.747 9.256,-18.493 8.494,-18.493 8.494,-18.747
  region: 9.256,-18.239 9.256,-17.985 8.494,-17.985 8.494,-18.239
  region: 9.256,-17.731 9.256,-17.477 8.494,-17.477 8.494,-17.731
  region: -1.158,-12.37 -1.158,-12.12 -1.875,-12.12 -1.875,-12.37
  region: -1.158,-11.87 -1.158,-11.62 -1.875,-11.62 -1.875,-11.87
  region: -1.158,-11.37 -1.158,-11.12 -1.875,-11.12 -1.875,-11.37
  region: -1.158,-10.87 -1.158,-10.62 -1.875,-10.62 -1.875,-10.87
  region: -1.158,-10.37 -1.158,-10.12 -1.875,-10.12 -1.875,-10.37
  region: -1.158,-9.87 -1.158,-9.62 -1.875,-9.62 -1.875,-9.87
  region: -1.158,-9.37 -1.158,-9.12 -1.875,-9.12 -1.875,-9.37
  region: -1.158,-8.87 -1.158,-8.62 -1.875,-8.62 -1.875,-8.87
  region: -1.158,-8.37 -1.158,-8.12 -1.875,-8.12 -1.875,-8.37
  region: -1.158,-7.87 -1.158,-7.62 -1.875,-7.62 -1.875,-7.87
  region: -1.158,-7.37 -1.158,-7.12 -1.875,-7.12 -1.875,-7.37
  region: -1.158,-6.87 -1.158,-6.62 -1.875,-6.62 -1.875,-6.87
  region: -1.158,12.13 -1.158,12.38 -1.875,12.38 -1.875,12.13
  region: -1.158,11.63 -1.158,11.88 -1.875,11.88 -1.875,11.63
  region: -1.158,11.13 -1.158,11.38 -1.875,11.38 -1.875,11.13
  region: -1.158,10.63 -1.158,10.88 -1.875,10.88 -1.875,10.63
  region: -1.158,10.13 -1.158,10.38 -1.875,10.38 -1.875,10.13
  region: -1.158,9.63 -1.158,9.88 -1.875,9.88 -1.875,9.63
  region: -1.158,9.13 -1.158,9.38 -1.875,9.38 -1.875,9.13
  region: -1.158,8.63 -1.158,8.88 -1.875,8.88 -1.875,8.63
  region: -1.158,8.13 -1.158,8.38 -1.875,8.38 -1.875,8.13
  region: -1.158,7.63 -1.158,7.88 -1.875,7.88 -1.875,7.63
  region: -1.158,7.13 -1.158,7.38 -1.875,7.38 -1.875,7.13
  region: -1.158,6.63 -1.158,6.88 -1.875,6.88 -1.875,6.63
  region: -1.158,6.13 -1.158,6.38 -1.875,6.38 -1.875,6.13
  region: -1.158,5.63 -1.158,5.88 -1.875,5.88 -1.875,5.63
  region: -1.158,5.13 -1.158,5.38 -1.875,5.38 -1.875,5.13
  region: -1.158,4.63 -1.158,4.88 -1.875,4.88 -1.875,4.63
  region: -1.158,4.13 -1.158,4.38 -1.875,4.38 -1.875,4.13
  region: -1.158,3.63 -1.158,3.88 -1.875,3.88 -1.875,3.63
  region: -1.158,3.13 -1.158,3.38 -1.875,3.38 -1.875,3.13
  region: -1.158,2.63 -1.158,2.88 -1.875,2.88 -1.875,2.63
  region: -1.158,2.13 -1.158,2.38 -1.875,2.38 -1.875,2.13
  region: -1.158,1.63 -1.158,1.88 -1.875,1.88 -1.875,1.63
  region: -1.158,1.13 -1.158,1.38 -1.875,1.38 -1.875,1.13
  region: -1.158,0.63 -1.158,0.88 -1.875,0.88 -1.875,0.63
  region: -1.158,0.13 -1.158,0.38 -1.875,0.38 -1.875,0.13
  region: -1.158,-0.37 -1.158,-0.12 -1.875,-0.12 -1.875,-0.37
  region: -1.158,-0.87 -1.158,-0.62 -1.875,-0.62 -1.875,-0.87
  region: -1.158,-1.37 -1.158,-1.12 -1.875,-1.12 -1.875,-1.37
  region: -1.158,-1.87 -1.158,-1.62 -1.875,-1.62 -1.875,-1.87
  region: -1.158,-2.37 -1.158,-2.12 -1.875,-2.12 -1.875,-2.37
  region: -1.158,-2.87 -1.158,-2.62 -1.875,-2.62 -1.875,-2.87
  region: -1.158,-3.37 -1.158,-3.12 -1.875,-3.12 -1.875,-3.37
  region: -1.158,-3.87 -1.158,-3.62 -1.875,-3.62 -1.875,-3.87
  region: -1.158,-4.37 -1.158,-4.12 -1.875,-4.12 -1.875,-4.37
  region: -1.158,-4.87 -1.158,-4.62 -1.875,-4.62 -1.875,-4.87
  region: -1.158,-5.37 -1.158,-5.12 -1.875,-5.12 -1.875,-5.37
  region: -1.158,-5.87 -1.158,-5.62 -1.875,-5.62 -1.875,-5.87
  region: -1.158,-6.37 -1.158,-6.12 -1.875,-6.12 -1.875,-6.37
  lines w0.254: 2.906,-14.048 -1.158,-14.048 -1.158,14.019 2.906,14.019 ; 4.557,-11 8.367,-14.81 ; 4.557,-8.079 8.367,-11.889 ; 4.557,-3.888 8.367,-7.698 ; 4.557,0.557 8.367,-3.253 ; 4.557,5.51 8.367,1.7 ; 4.557,10.209 8.367,6.399 ; 4.557,14.781 8.367,10.971 ; 11.669,-21.033 11.669,-20.652 ; 11.669,-16.588 11.669,-16.08 ; 11.923,-19.001 13.574,-20.652 ; 11.923,-17.223 15.352,-20.652 ; 13.701,-16.588 15.733,-18.62 ; 4.557,-15.445 8.367,-15.445 8.367,15.416 4.557,15.416 ; 4.557,-15.445 4.557,-14.048 4.557,14.019 4.557,15.416 ; 4.557,-15.445 2.906,-15.445 2.906,15.416 4.557,15.416 ; 11.923,-20.652 15.733,-20.652 15.733,-16.588 11.923,-16.588 ; 11.923,-20.652 11.923,-16.588 ; 11.923,-20.652 9.256,-20.652 9.256,-16.588 11.923,-16.588
  text "NO COMPONENT AREAS" at 6.589,-8.079 h1.02
Assembly Designator:
  text ".Designator" at 0.508,0.889 h1.02
Assembly Comment:
  text ".Comment" at -0.381,4.191 h1.02

## LQFP32_030305 [mm] "SMT"
height 2.54
pads (34):
  round 1.016 on Top Overlay mask+0.038: 0(-2.743,-6.223)
  round 1.016 on Mech1 mask+0.038: 0(-2.083,-2.642)
  rect 0.4x1 smd mask+0.038: 1(-2.8,-4.5) 2(-2,-4.5) 3(-1.2,-4.5) 4(-0.4,-4.5) 5(0.4,-4.5) 6(1.2,-4.5) 7(2,-4.5) 8(2.8,-4.5) 17(2.8,4.5) 18(2,4.5) 19(1.2,4.5) 20(0.4,4.5) 21(-0.4,4.5) 22(-1.2,4.5) 23(-2,4.5) 24(-2.8,4.5)
  rect 1x0.4 smd mask+0.038: 9(4.5,-2.8) 10(4.5,-2) 11(4.5,-1.2) 12(4.5,-0.4) 13(4.5,0.4) 14(4.5,1.2) 15(4.5,2) 16(4.5,2.8) 25(-4.5,2.8) 26(-4.5,2) 27(-4.5,1.2) 28(-4.5,0.4) 29(-4.5,-0.4) 30(-4.5,-1.2) 31(-4.5,-2) 32(-4.5,-2.8)
Top Layer keep-out:
  lines w0.254: -4.877,-3.353 -4.496,-3.353 ; -4.877,3.353 -4.496,3.353 ; -3.353,-4.902 -3.353,-4.521 ; -3.353,4.521 -3.353,4.902 ; 3.353,-4.902 3.353,-4.521 ; 3.353,4.521 3.353,4.902 ; 4.496,-3.353 4.877,-3.353 ; 4.496,3.353 4.877,3.353
Top Overlay:
  lines w0.254: -5.5,-4 -4.1,-5.4 5.4,-5.4 5.4,5.4 2.8,5.4 -5.5,5.4 -5.5,-4
Assembly:
  lines w0.254: -4.5,-2.8 -3.5,-2.8 -3.1,-2.8 ; -4.5,-2 -3.5,-2 ; -4.5,-1.2 -3.5,-1.2 ; -4.5,-0.4 -3.5,-0.4 ; -4.5,0.4 -3.5,0.4 ; -4.5,1.2 -3.5,1.2 ; -4.5,2 -3.5,2 ; -4.5,2.8 -3.5,2.8 ; -2.8,-4.5 -2.8,-3.5 -2.8,-3.1 ; -2.8,3.5 -2.8,4.5 ; -2,-4.5 -2,-3.5 ; -2,3.5 -2,4.5 ; -1.2,-4.5 -1.2,-3.5 ; -1.2,3.5 -1.2,4.5 ; -0.4,-4.5 -0.4,-3.5 ; -0.4,3.5 -0.4,4.5 ; 0,3.5 3.5,3.5 ; 0.4,-4.5 0.4,-3.5 ; 0.4,3.5 0.4,4.5 ; 1.2,-4.5 1.2,-3.5 ; 1.2,3.5 1.2,4.5 ; 2,-4.5 2,-3.5 ; 2,3.5 2,4.5 ; 2.8,-4.5 2.8,-3.5 ; 2.8,3.5 2.8,4.5 ; 3.5,-2.8 4.5,-2.8 ; 3.5,-2 4.5,-2 ; 3.5,-1.2 4.5,-1.2 ; 3.5,-0.4 4.5,-0.4 ; 3.5,0.4 4.5,0.4 ; 3.5,1.2 4.5,1.2 ; 3.5,2 4.5,2 ; 3.5,2.8 4.5,2.8 ; 3.5,3.5 3.5,-3.5 -2.4,-3.5 -3.5,-2.4 -3.5,3.5 3.5,3.5
Assembly Designator:
  text ".Designator" at -1.651,-0.254 h1.02
Assembly Comment:
  text ".Comment" at -3.175,2.032 h1.02